# Altium footprint library link.PcbLib: 7 footprints
Each footprint in its own frame and in the unit in brackets; x right, y up, seen from the top. Pads: shape width x height; smd on the part's side, far side on the other; paste and mask are expansions set on the pad; w line width, h text height; cw(c..) or ccw(c..) is an arc to the next point about the centre after c.
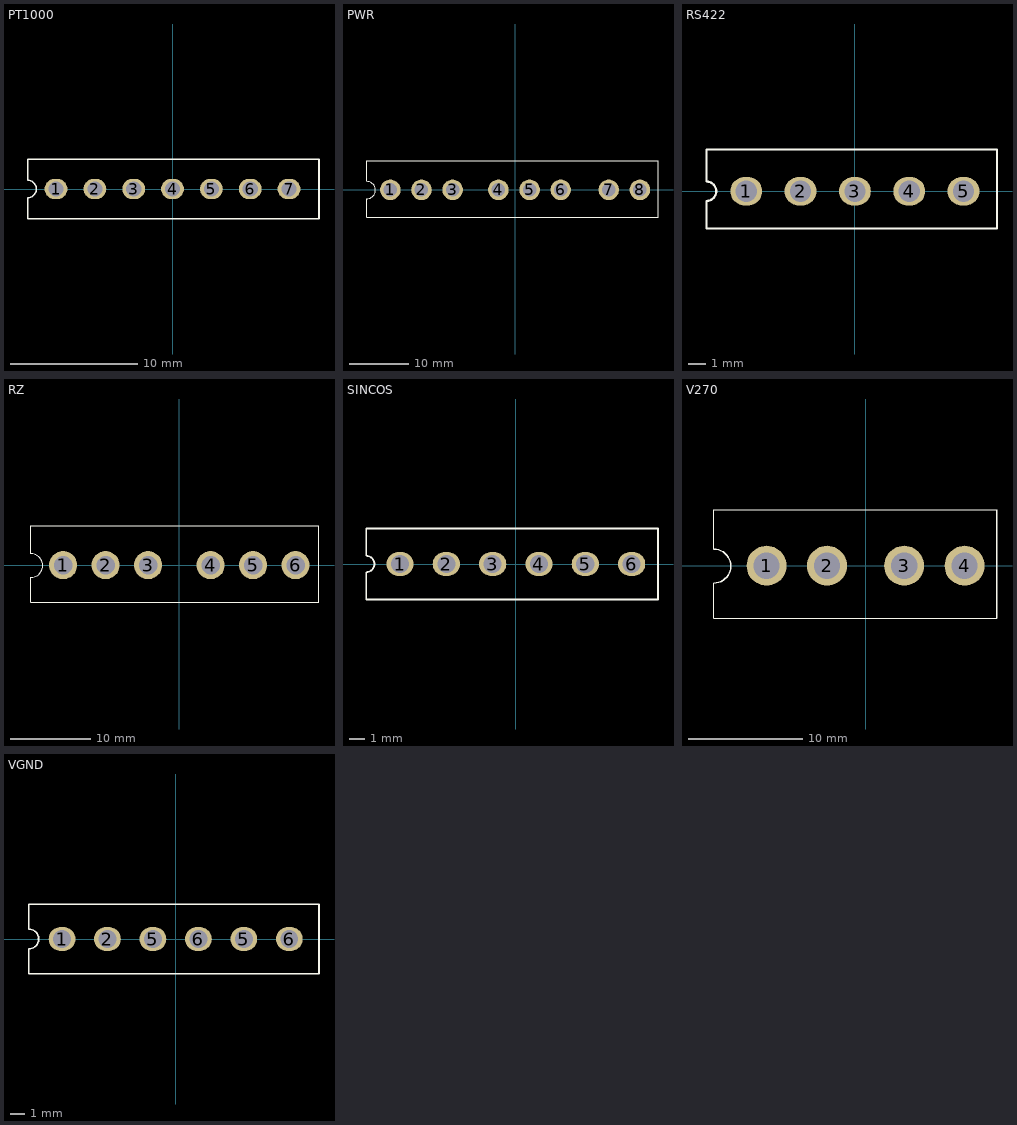
[diagram p0: the footprints below, top view; thin cyan lines are the x and y axes]

## PT1000 [mm]
pads (7):
  oval 1.8x1.6 hole 1.2: 1(-9.193,0) 2(-6.129,0) 3(-3.064,0) 4(0,0) 5(3.064,0) 6(6.129,0) 7(9.193,0)
Top Overlay:
  lines w0.1: -11.43,-2.349 -11.43,-0.684 ; -11.43,0.684 -11.43,2.349
  lines w0.12: -11.43,-2.349 11.557,-2.349 11.557,2.349 -11.43,2.349 ; -11.43,-0.684 ccw(c-11.43,0) -11.43,0.684

## PWR [mm]
pads (8):
  round 3.5 hole 2.3: 1(-21.205,0) 2(-15.915,0) 3(-10.624,0) 4(-2.836,0) 5(2.455,0) 6(7.746,0) 7(15.915,0) 8(21.205,0)
Top Overlay:
  lines w0.1: -25.22,-4.615 -25.22,-1.526 ; -25.22,1.436 -25.22,4.908
  lines w0.12: -25.22,-4.615 24.279,-4.615 24.279,4.908 -25.22,4.908 ; -25.22,-1.526 ccw(c-25.22,-0.045) -25.22,1.436

## RS422 [mm]
pads (5):
  oval 1.8x1.6 hole 1.2: 1(-6.129,0) 2(-3.064,0) 3(0,0) 4(3.064,0) 5(6.129,0)
Top Overlay:
  lines w0.1: -8.366,-2.095 -8.366,-0.543 ; -8.366,0.543 -8.366,2.349
  lines w0.12: -8.366,-2.095 8.017,-2.095 8.017,2.349 -8.366,2.349 ; -8.366,-0.543 ccw(c-8.366,0) -8.366,0.543

## RZ [mm]
pads (6):
  round 3.5 hole 2.3: 1(-14.476,0) 2(-9.185,0) 3(-3.894,0) 4(3.894,0) 5(9.185,0) 6(14.476,0)
Top Overlay:
  lines w0.1: -18.491,-4.615 -18.491,-1.526 ; -18.491,1.436 -18.491,4.908
  lines w0.12: -18.491,-4.615 17.398,-4.615 17.398,4.908 -18.491,4.908 ; -18.491,-1.526 ccw(c-18.491,-0.045) -18.491,1.436

## SINCOS [mm]
pads (6):
  oval 1.8x1.6 hole 1.2: 1(-7.661,0) 2(-4.596,0) 3(-1.532,0) 4(1.532,0) 5(4.597,0) 6(7.661,0)
Top Overlay:
  lines w0.1: -9.898,-2.349 -9.898,-0.543 ; -9.898,0.543 -9.898,2.349
  lines w0.12: -9.898,-2.349 9.406,-2.349 9.406,2.349 -9.898,2.349 ; -9.898,-0.543 ccw(c-9.898,0) -9.898,0.543

## V270 [mm]
pads (4):
  round 3.5 hole 2.3: 1(-8.667,0) 2(-3.376,0) 3(3.376,0) 4(8.667,0)
Top Overlay:
  lines w0.1: -13.279,-1.526 -13.279,-4.615 11.504,-4.615 ; -13.279,1.436 -13.279,4.908 11.504,4.908
  lines w0.12: -13.279,-1.526 ccw(c-13.279,-0.045) -13.279,1.436 ; 11.504,-4.615 11.504,4.908

## VGND [mm]
pads (6):
  oval 1.8x1.6 hole 1.2: 1(-7.661,0) 2(-4.596,0) 5(-1.532,0) 5(4.597,0) 6(1.532,0) 6(7.661,0)
Top Overlay:
  lines w0.1: -9.898,-2.349 -9.898,-0.663 ; -9.898,0.663 -9.898,2.349
  lines w0.12: -9.898,-2.349 9.66,-2.349 9.66,2.349 -9.898,2.349 ; -9.898,-0.663 ccw(c-9.898,0) -9.898,0.663